# Altium schematic symbol library Diodes.SchLib: 26 symbols
Pins are listed as number, name and electrical type; pins without a type are passive.

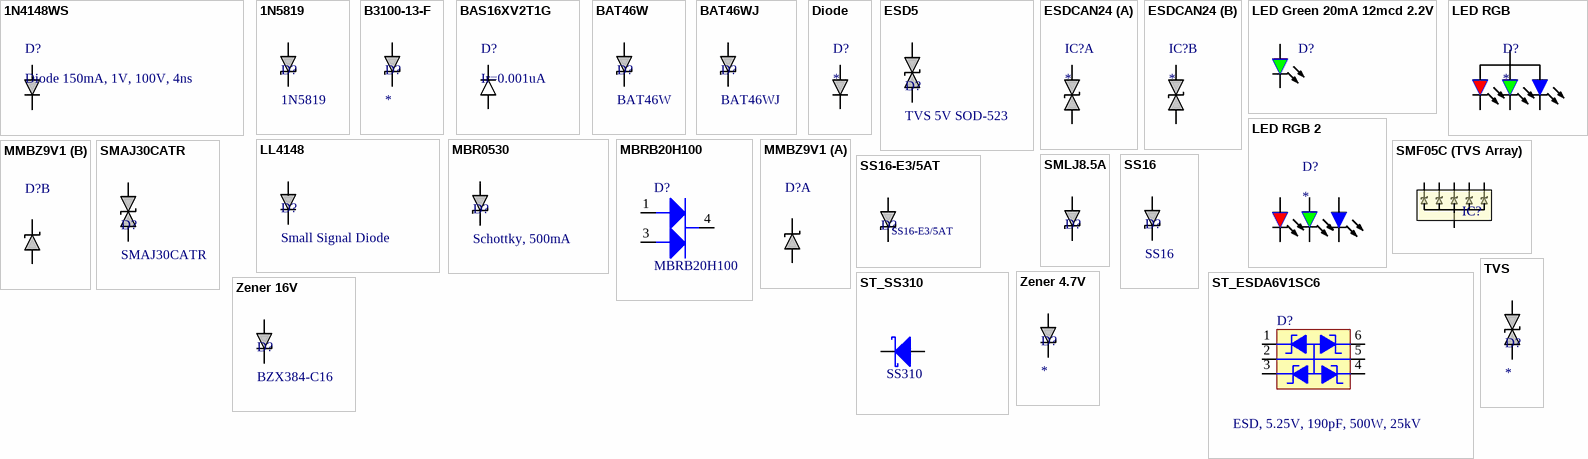
[diagram p0: symbols 1N4148WS to Zener 16V]

## 1N4148WS
designator D?, comment Diode 150mA, 1V, 100V, 4ns
Ordercode: 1N4148WS; ComponentLink1Description: Datasheet; Lötbarkeit RoHS: YES; Material RoHS: YES
footprint SOD-323 (Molded Diode, 2-Leads, Body 1,70x1,25mm, IPC Medium Density)
pins: 1, 2

## 1N5819
designator D?
ComponentLink1Description: Datasheet; Lötbarkeit RoHS: YES; Material RoHS: YES
footprint DIOM4427X22N (Molded Diode, 2-Leads, Body 4,38x2,73mm, IPC Medium Density)
pins: 1, 2

## B3100-13-F
designator D?
ComponentLink1Description: Datasheet; Lötbarkeit RoHS: YES; Material RoHS: YES
footprint DIOM6859X25N (Molded Diode, 2-Leads, Body 6,85x5,90mm, IPC Medium Density)
pins: 1, 2

## BAS16XV2T1G
designator D?, comment Ir=0.001uA
Diode; Ordercode: BAS16XV2T1G; ComponentLink1Description: Datasheet; Lötbarkeit RoHS: YES; Material RoHS: YES
footprint SOD523 (Molded Diode, 2-Leads, Body 1,20x0,80mm, IPC Medium Density)
pins: 1 K, 2 A

## BAT46W
designator D?
SURFACE MOUNT SCHOTTKY BARRIER DIODE; Manufacturer: DIODES INC.; Part Specification: 100V/150mA; ComponentLink1Description: Datasheet; ComponentLink1URL: http://www.diodes.com/_files/datasheets/ds30044.pdf; Lötbarkeit RoHS: YES; Material RoHS: YES; Ordercode: BAT46W; Temperature Range: -55°C  to +125°C
footprint SOD123 (Molded Diode, 2-Leads, Body 3,70x1,55mm, IPC Medium Density)
pins: 1, 2

## BAT46WJ
designator D?
SURFACE MOUNT SCHOTTKY BARRIER DIODE; Manufacturer: NXP; Part Specification: 100V/250mA; ComponentLink1Description: Datasheet; ComponentLink1URL: http://www.nxp.com/documents/data_sheet/BAT46WJ.pdf; Lötbarkeit RoHS: YES; Material RoHS: YES; Ordercode: BAT46WJ; Temperature Range: -55°C  to +150°C
footprint SOD323F (Molded Diode, 2-Leads, Body 2,50x1,25mm, IPC Medium Density)
pins: 1, 2

## Diode
designator D?
ComponentLink1Description: Datasheet; Lötbarkeit RoHS: YES; Material RoHS: YES
footprint SC-90 (Molded Diode, 2-Leads, Body 1,70x1,25mm, IPC Medium Density)
footprint DO-214AC (Molded Diode, 2-Leads, Body 4,33x2,56mm, IPC Medium Density)
pins: 1, 2

## ESD5
designator D?, comment TVS 5V SOD-523
Ordercode: ESD5B5.0ST1G; ComponentLink1Description: Datasheet; Lötbarkeit RoHS: YES; Material RoHS: YES
footprint SOD523 (Molded Diode, 2-Leads, Body 1,20x0,80mm, IPC Medium Density)
pins: 1, 2

## ESDCAN24
designator IC?
CAN ESD Protection; Ordercode: ESDCAN24; ComponentLink1Description: Datasheet; Lötbarkeit RoHS: YES; Material RoHS: YES
footprint SOT23 (SOT23, 3-Leads, Body 3,0x2,5mm (max), Pitch 0,95mm, IPC Low Density)
part A pins: 1, 3
part B pins: 2, 3

## LED Green 20mA 12mcd 2.2V
designator D?  (value not drawn)
Ordercode: KP-2012SGC; ComponentLink1Description: Datasheet; Lötbarkeit RoHS: YES; Material RoHS: YES
footprint LED0805 (SM LED; 2 Flat Leads)
pins: 1 A, 2 K

## LED RGB
designator D?
ComponentLink1Description: Datasheet; Lötbarkeit RoHS: YES; Material RoHS: YES
footprint LED RGB 2.8x2.8
pins: 1 K, 2 A, 3 K, 4 K

## LED RGB 2
designator D?
ComponentLink1Description: Datasheet; Lötbarkeit RoHS: YES; Material RoHS: YES
footprint LED RGB 3.4x3.4
pins: 1 K, 2 K, 3 K, 4 A, 5 A, 6 A

## LL4148
designator D?, comment Small Signal Diode
ComponentLink1Description: Datasheet; ComponentLink1URL: http://www.fairchildsemi.com/ds/LL/LL4148.pdf; Lötbarkeit RoHS: YES; Material RoHS: YES
footprint DIOMELF3414N (MELF Diode, 2-Leads, Body 3,45x1,40mm, IPC Medium Density)
pins: 1, 2

## MBR0530
designator D?, comment Schottky, 500mA
Ordercode: MBR0530T1G; ComponentLink1Description: Datasheet; Lötbarkeit RoHS: YES; Material RoHS: YES
footprint SOD123 (Molded Diode, 2-Leads, Body 3,50x1,70mm, IPC Medium Density)
pins: 1, 2

## MBRB20H100
designator D?
Dual Common Cathode Diode; Part Specification: 100V/20A; Manufacturer: ON Semiconductor; Ordercode: MBRB20H100CTT4G; ComponentLink1Description: Datasheet; ComponentLink1URL: http://www.onsemi.com/pub_link/Collateral/MBR20H100CT-D.PDF; Lötbarkeit RoHS: YES; Material RoHS: YES; Temperature Range: -65°C to +175°C
footprint D2PAK TO418 (D2-PAK, 3-Pads, Body 8.24x8.50mm (max), IPC Low Density)
pins: 1 A1, 3 A2, 4 C

## MMBZ9V1
designator D?, comment TVS, 6V, 24W, SOT-23  (value not drawn)
Ordercode: MMBZ9V1ALT1G; ComponentLink1Description: Datasheet; Lötbarkeit RoHS: YES; Material RoHS: YES
footprint SOT23 (SOT23, 3-Leads, Body 3,0x2,5mm (max), Pitch 0,95mm, IPC Low Density)
part A pins: 1, 2
part B pins: 2, 3

## SMAJ30CATR
designator D?
TVS/BiDir/30V; Manufacturer: ST; ComponentLink1Description: Datasheet; ComponentLink1URL: http://www.farnell.com/datasheets/1724007.pdf; Lötbarkeit RoHS: YES; Material RoHS: YES; Ordercode: SMAJ30CATR; Part Specification: TVS/BiDir/30V; Temperature Range: -55°C to +150°C
footprint DO-214AC (Molded Diode, 2-Leads, Body 5,10x2,67mm, IPC Medium Density)
pins: 1, 2

## SMF05C (TVS Array)
designator IC?  (value not drawn)
Ordercode: SMF05CT2G; ComponentLink1Description: Datasheet; ComponentLink1URL: http://www.onsemi.ru.com/pub_link/Collateral/SMF05C-D.PDF; Lötbarkeit RoHS: YES; Material RoHS: YES
footprint SC-88 (SOT23, 6-Leads, Body 2,00x2,10mm, Pitch 0,65mm, IPC Medium Density)
pins: 1, 2, 3, 4, 5, 6

## SMLJ8.5A
designator D?, comment TVS, 8.5V, 3kW  (value not drawn)
Ordercode: SMLJ8.5A; ComponentLink1Description: Datasheet; Lötbarkeit RoHS: YES; Material RoHS: YES
footprint DO-214AB (Molded Diode, 2-Leads, Body 6,85x5,90mm, IPC Medium Density)
pins: 1, 2

## SS16
designator D?
Std Rectifier, 1A,0.75V,60V; Ordercode: SS16.; ComponentLink1Description: Datasheet; Lötbarkeit RoHS: YES; Material RoHS: YES
footprint DO-214AC (Molded Diode, 2-Leads, Body 4,33x2,56mm, IPC Medium Density)
pins: 1, 2

## SS16-E3/5AT
designator D?
Schottky Rectifier, 1A,0.75V,60V; Manufacturer: VISHAY; Part Specification: 1A/0.75V/60V; ComponentLink1Description: Datasheet; ComponentLink1URL: http://www.vishay.com/docs/88746/ss12.pdf; Lötbarkeit RoHS: YES; Material RoHS: YES; Temperature Range: -65°C to +150°C; Ordercode: SS16-E3/5AT
footprint DO-214AC (Molded Diode, 2-Leads, Body 4,33x2,56mm, IPC Medium Density)
pins: 1, 2

## ST_ESDA6V1SC6
designator D?, comment Part Specification: ESD, 5.25V, 190pF, 500W, 25kV  (hidden comment: ESDA6V1SC6)
ESD Protection Array, 2 Line, SOT23; Manufacturer: STM; ComponentLink1Description: Datasheet; ComponentLink1URL: v:\Altium\Datasheets\Diode\ST_ESDA6V1SC6.pdf; Lötbarkeit RoHS: YES; Material RoHS: YES; Temperature Range: -40°C to +125°C; Ordercode: ESDA6V1SC6
footprint SOT23-6 (SOT23, 6-Leads, Body 2,90x2,70mm, Pitch 0,95mm, IPC Medium Density)
pins: 1, 2, 3, 4, 5, 6

## ST_SS310
designator D?, comment SS310
Schottky power rectifier 100V, 3A, SMC; Manufacturer: MULTICOMP; ComponentLink1Description: Datasheet; Lötbarkeit RoHS: YES; Material RoHS: YES; Temperature Range: -55°C to +150°C; ComponentLink1URL: http://www.farnell.com/datasheets/1677323.pdf; Part Specification: 100V, 3A; Ordercode: SS310
footprint DO-214AB (Molded Diode, 2-Leads, Body 6,85x5,90mm, IPC Low Density)
pins: 1 K, 2 A

## TVS
designator D?
ComponentLink1Description: Datasheet; Lötbarkeit RoHS: YES; Material RoHS: YES
footprint DO-214AA (Molded Diode, 2-Leads, Body 4,32x3,63mm, IPC Medium Density)
footprint SOD123 (Molded Diode, 2-Leads, Body 3,50x1,70mm, IPC Medium Density)
pins: 1, 2

## Zener 4.7V
designator D?
ComponentLink1Description: Datasheet; Lötbarkeit RoHS: YES; Material RoHS: YES
footprint DIOMELF3414N (MELF Diode, 2-Leads, Body 3,45x1,40mm, IPC Medium Density)
pins: 1, 2

## Zener 16V
designator D?, comment BZX384-C16
Zener Diode 16V; Manufacturer: NXP; Part Specification: Zener 16V; ComponentLink1Description: Datasheet; ComponentLink1URL: http://www.farnell.com/datasheets/672726.pdf; Lötbarkeit RoHS: YES; Material RoHS: YES; Ordercode: BZX384-C16; Temperature Range: -65°C to 150°C
footprint SOD323F (Molded Diode, 2-Leads, Body 2,50x1,25mm, IPC Medium Density)
pins: 1, 2